# Altium footprint library WE-CMB HV.PcbLib: 10 footprints
Each footprint in its own frame and in the unit in brackets; x right, y up, seen from the top. Pads: shape width x height; smd on the part's side, far side on the other; paste and mask are expansions set on the pad; w line width, h text height; cw(c..) or ccw(c..) is an arc to the next point about the centre after c.
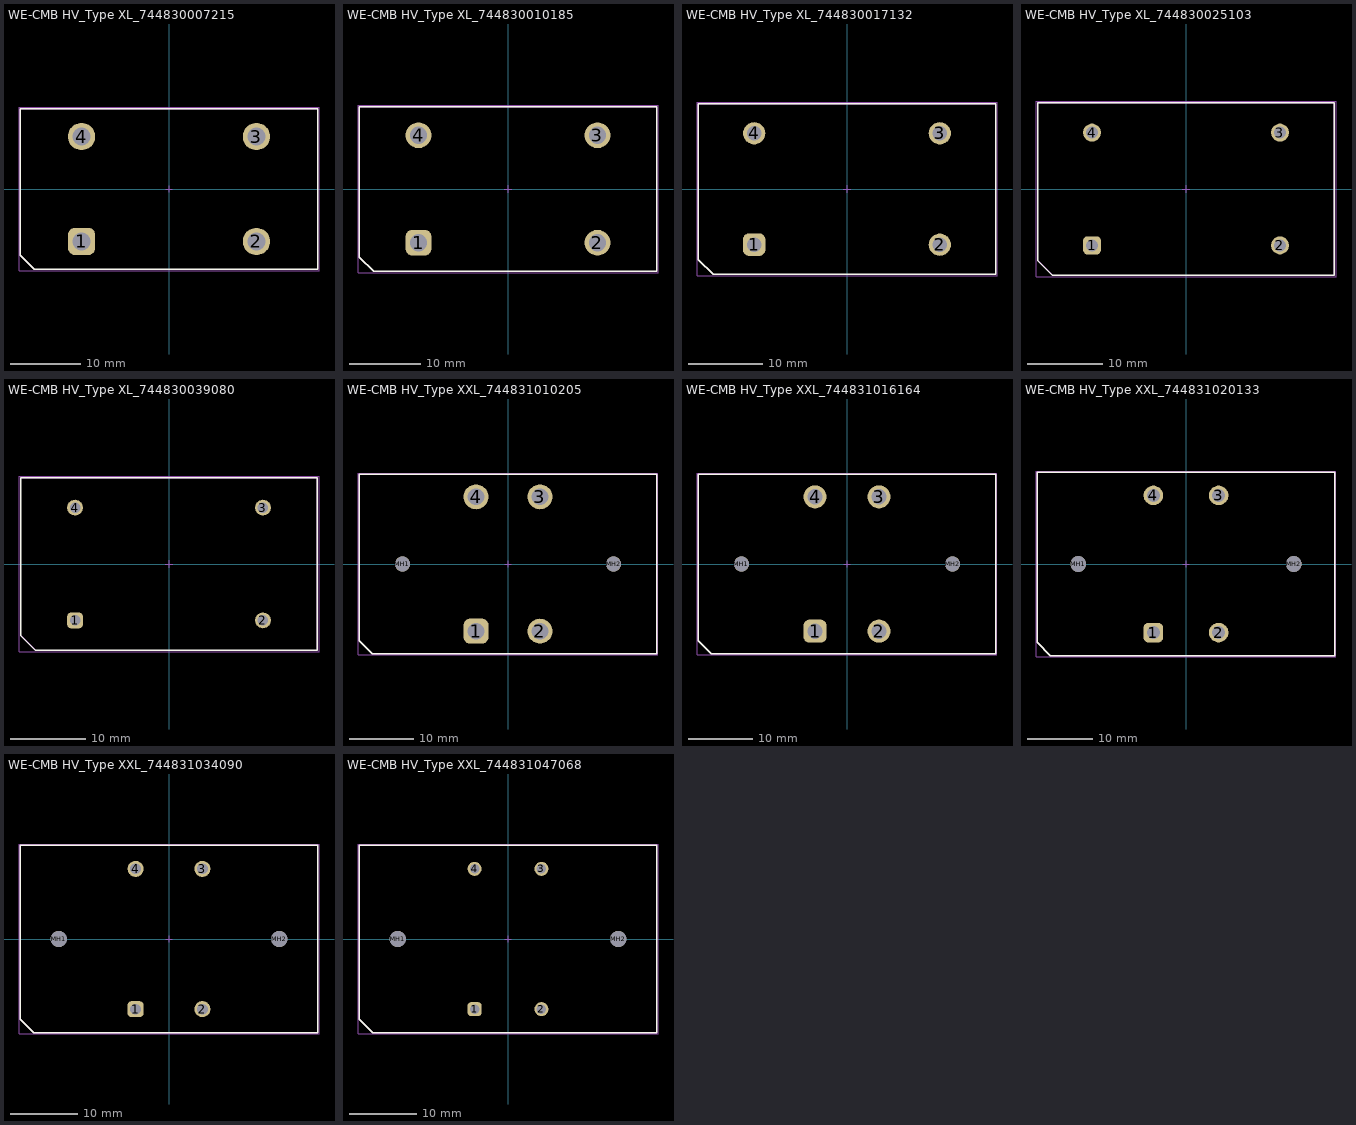
[diagram p0: the footprints below, top view; thin cyan lines are the x and y axes]

## WE-CMB HV_Type XL_744830007215 [mm] "Common Mode  Power Line Choke, 4-Leads, body 42.5x23mm"
height 39.5
pads (4):
  rrect50% 3.9x3.9 hole 2.6: 1(-12.5,-7.5)
  round 3.9 hole 2.6: 2(12.5,-7.5) 3(12.5,7.5) 4(-12.5,7.5)
Top Overlay:
  lines w0.2: -21.25,-9.5 -19.25,-11.5 21.25,-11.5 21.25,11.5 -21.25,11.5 -21.25,-9.5
Top Designator:
  text ".Designator" at -7.498,-0.5 h1.5
Top Component Outline:
  lines w0.1: -21.25,-9.5 -21.25,11.5 21.25,11.5 21.25,-11.5 -19.25,-11.5 -21.25,-9.5
Top 3D Body:
  lines w0.1: -21.25,-9.5 -21.25,11.5 21.25,11.5 21.25,-11.5 -19.25,-11.5 -21.25,-9.5
Top Courtyard:
  lines w0.05: -0.5,0 0.5,0 ; 0,-0.5 0,0.5 ; -21.45,-11.7 21.45,-11.7 21.45,11.7 -21.45,11.7 -21.45,-11.7
3D body "744830007215.stp": height 36.75, standoff -4.8, extent -19.11,-11.1 19.11,10.9

## WE-CMB HV_Type XL_744830010185 [mm] "Common Mode  Power Line Choke, 4-Leads, body 41.5x23mm"
height 39.5
pads (4):
  rrect50% 3.6x3.6 hole 2.4: 1(-12.5,-7.5)
  round 3.6 hole 2.4: 2(12.5,-7.5) 3(12.5,7.5) 4(-12.5,7.5)
Top Overlay:
  lines w0.2: -20.75,-9.5 -20.75,11.5 20.75,11.5 20.75,-11.5 -18.75,-11.5 -20.75,-9.5
Top Designator:
  text ".Designator" at -7.498,-0.5 h1.5
Top Component Outline:
  lines w0.1: -20.75,-9.5 -18.75,-11.5 20.75,-11.5 20.75,11.5 -20.75,11.5 -20.75,-9.5
Top 3D Body:
  lines w0.1: -20.75,-9.5 -18.75,-11.5 20.75,-11.5 20.75,11.5 -20.75,11.5 -20.75,-9.5
Top Courtyard:
  lines w0.05: -0.5,0 0.5,0 ; 0,-0.5 0,0.5 ; -20.95,-11.7 -20.95,11.7 20.95,11.7 20.95,-11.7 -20.95,-11.7
3D body "744830010185.stp": height 36.75, standoff -4.8, extent -19.11,-11.1 19.11,10.9

## WE-CMB HV_Type XL_744830017132 [mm] "Common Mode  Power Line Choke, 4-Leads, body 40x23mm"
height 39.5
pads (4):
  rrect50% 3x3 hole 2: 1(-12.5,-7.5)
  round 3 hole 2: 2(12.5,-7.5) 3(12.5,7.5) 4(-12.5,7.5)
Top Overlay:
  lines w0.2: -20,-9.5 -18,-11.5 20,-11.5 20,11.5 -20,11.5 -20,-9.5
Top Designator:
  text ".Designator" at -7.498,-0.5 h1.5
Top Component Outline:
  lines w0.1: -20,-9.5 -20,11.5 20,11.5 20,-11.5 -18,-11.5 -20,-9.5
Top 3D Body:
  lines w0.1: -20,-9.5 -20,11.5 20,11.5 20,-11.5 -18,-11.5 -20,-9.5
Top Courtyard:
  lines w0.05: -0.5,0 0.5,0 ; 0,-0.5 0,0.5 ; -20.2,-11.7 20.2,-11.7 20.2,11.7 -20.2,11.7 -20.2,-11.7
3D body "744830017132.stp": height 36.75, standoff -4.8, extent -19.11,-11.1 19.11,10.9

## WE-CMB HV_Type XL_744830025103 [mm] "Common Mode  Power Line Choke, 4-Leads, body 39.5x23mm"
height 39.5
pads (4):
  rrect50% 2.4x2.4 hole 1.6: 1(-12.5,-7.5)
  round 2.4 hole 1.6: 2(12.5,-7.5) 3(12.5,7.5) 4(-12.5,7.5)
Top Overlay:
  lines w0.2: -19.75,-9.5 -19.75,11.5 19.75,11.5 19.75,-11.5 -17.75,-11.5 -19.75,-9.5
Top Designator:
  text ".Designator" at -7.498,-0.5 h1.5
Top Component Outline:
  lines w0.1: -19.75,-9.5 -17.75,-11.5 19.75,-11.5 19.75,11.5 -19.75,11.5 -19.75,-9.5
Top 3D Body:
  lines w0.1: -19.75,-9.5 -17.75,-11.5 19.75,-11.5 19.75,11.5 -19.75,11.5 -19.75,-9.5
Top Courtyard:
  lines w0.05: -0.5,0 0.5,0 ; 0,-0.5 0,0.5 ; -19.95,-11.7 -19.95,11.7 19.95,11.7 19.95,-11.7 -19.95,-11.7
3D body "744830025103.stp": height 36.75, standoff -4.8, extent -19.11,-11.1 19.11,10.9

## WE-CMB HV_Type XL_744830039080 [mm] "Common Mode  Power Line Choke, 4-Leads, body 39.5x23mm"
height 39.5
pads (4):
  rrect50% 2.1x2.1 hole 1.4: 1(-12.5,-7.5)
  round 2.1 hole 1.4: 2(12.5,-7.5) 3(12.5,7.5) 4(-12.5,7.5)
Top Overlay:
  lines w0.2: -19.75,-9.5 -19.75,11.5 19.75,11.5 19.75,-11.5 -17.75,-11.5 -19.75,-9.5
Top Designator:
  text ".Designator" at -7.498,-0.5 h1.5
Top Component Outline:
  lines w0.1: -19.75,-9.5 -17.75,-11.5 19.75,-11.5 19.75,11.5 -19.75,11.5 -19.75,-9.5
Top 3D Body:
  lines w0.1: -19.75,-9.5 -17.75,-11.5 19.75,-11.5 19.75,11.5 -19.75,11.5 -19.75,-9.5
Top Courtyard:
  lines w0.05: -0.5,0 0.5,0 ; 0,-0.5 0,0.5 ; -19.95,-11.7 -19.95,11.7 19.95,11.7 19.95,-11.7 -19.95,-11.7
3D body "744830039080.stp": height 36.75, standoff -4.8, extent -19.11,-11.1 19.11,10.9

## WE-CMB HV_Type XXL_744831010205 [mm] "Common Mode  Power Line Choke, 4-Leads, body 46.5x28mm"
height 44.5
pads (6):
  rrect50% 3.9x3.9 hole 2.6: 1(-5,-10.5)
  round 3.9 hole 2.6: 2(5,-10.5) 3(5,10.5) 4(-5,10.5)
  round 2.4 hole 2.4 unplated: MH1(-16.5,0) MH2(16.5,0)
Top Overlay:
  lines w0.2: -23.25,-12 -23.25,14 23.25,14 23.25,-14 -21.25,-14 -23.25,-12
Top Designator:
  text ".Designator" at -7.498,-0.5 h1.5
Top Component Outline:
  lines w0.1: -23.25,-12 -21.25,-14 23.25,-14 23.25,14 -23.25,14 -23.25,-12
Top 3D Body:
  lines w0.1: -23.25,-12 -21.25,-14 23.25,-14 23.25,14 -23.25,14 -23.25,-12
Top Courtyard:
  lines w0.05: -0.5,0 0.5,0 ; 0,-0.5 0,0.5 ; -23.45,-14.2 -23.45,14.2 23.45,14.2 23.45,-14.2 -23.45,-14.2
3D body "744831010205.stp": height 41.3, standoff -4.9, extent -21.655,-13.25 21.657,13.25

## WE-CMB HV_Type XXL_744831016164 [mm] "Common Mode  Power Line Choke, 4-Leads, body 46.5x28mm"
height 44.5
pads (6):
  rrect50% 3.6x3.6 hole 2.4: 1(-5,-10.5)
  round 3.6 hole 2.4: 2(5,-10.5) 3(5,10.5) 4(-5,10.5)
  round 2.4 hole 2.4 unplated: MH1(-16.5,0) MH2(16.5,0)
Top Overlay:
  lines w0.2: -23.25,-12 -23.25,14 23.25,14 23.25,-14 -21.25,-14 -23.25,-12
Top Designator:
  text ".Designator" at -7.498,-0.5 h1.5
Top Component Outline:
  lines w0.1: -23.25,-12 -21.25,-14 23.25,-14 23.25,14 -23.25,14 -23.25,-12
Top 3D Body:
  lines w0.1: -23.25,-12 -21.25,-14 23.25,-14 23.25,14 -23.25,14 -23.25,-12
Top Courtyard:
  lines w0.05: -0.5,0 0.5,0 ; 0,-0.5 0,0.5 ; -23.45,-14.2 -23.45,14.2 23.45,14.2 23.45,-14.2 -23.45,-14.2
3D body "744831016164.stp": height 41.3, standoff -4.9, extent -21.655,-13.25 21.657,13.25

## WE-CMB HV_Type XXL_744831020133 [mm] "Common Mode  Power Line Choke, 4-Leads, body 45.5x28mm"
height 44.5
pads (6):
  rrect50% 3x3 hole 2: 1(-5,-10.5)
  round 3 hole 2: 2(5,-10.5) 3(5,10.5) 4(-5,10.5)
  round 2.4 hole 2.4 unplated: MH1(-16.5,0) MH2(16.5,0)
Top Overlay:
  lines w0.2: -22.75,-12 -20.75,-14 22.75,-14 22.75,14 -22.75,14 -22.75,-12
Top Designator:
  text ".Designator" at -7.498,-0.5 h1.5
Top Component Outline:
  lines w0.1: -22.75,-12 -22.75,14 22.75,14 22.75,-14 -20.75,-14 -22.75,-12
Top 3D Body:
  lines w0.1: -22.75,-12 -22.75,14 22.75,14 22.75,-14 -20.75,-14 -22.75,-12
Top Courtyard:
  lines w0.05: -0.5,0 0.5,0 ; 0,-0.5 0,0.5 ; -22.95,-14.2 22.95,-14.2 22.95,14.2 -22.95,14.2 -22.95,-14.2
3D body "744831020133.stp": height 41.3, standoff -4.9, extent -21.655,-13.25 21.657,13.25

## WE-CMB HV_Type XXL_744831034090 [mm] "Common Mode  Power Line Choke, 4-Leads, body 44.5x28mm"
height 44.5
pads (6):
  rrect50% 2.4x2.4 hole 1.6: 1(-5,-10.5)
  round 2.4 hole 1.6: 2(5,-10.5) 3(5,10.5) 4(-5,10.5)
  round 2.4 hole 2.4 unplated: MH1(-16.5,0) MH2(16.5,0)
Top Overlay:
  lines w0.2: -22.25,-12 -22.25,14 22.25,14 22.25,-14 -20.25,-14 -22.25,-12
Top Designator:
  text ".Designator" at -7.498,-0.5 h1.5
Top Component Outline:
  lines w0.1: -22.25,-12 -20.25,-14 22.25,-14 22.25,14 -22.25,14 -22.25,-12
Top 3D Body:
  lines w0.1: -22.25,-12 -20.25,-14 22.25,-14 22.25,14 -22.25,14 -22.25,-12
Top Courtyard:
  lines w0.05: -0.5,0 0.5,0 ; 0,-0.5 0,0.5 ; -22.45,-14.2 -22.45,14.2 22.45,14.2 22.45,-14.2 -22.45,-14.2
3D body "744831034090.stp": height 41.3, standoff -4.9, extent -21.655,-13.25 21.657,13.25

## WE-CMB HV_Type XXL_744831047068 [mm] "Common Mode  Power Line Choke, 4-Leads, body 44.5x28mm"
height 44.5
pads (6):
  rrect50% 2.1x2.1 hole 1.4: 1(-5,-10.5)
  round 2.1 hole 1.4: 2(5,-10.5) 3(5,10.5) 4(-5,10.5)
  round 2.4 hole 2.4 unplated: MH1(-16.5,0) MH2(16.5,0)
Top Overlay:
  lines w0.2: -22.25,-12 -22.25,14 22.25,14 22.25,-14 -20.25,-14 -22.25,-12
Top Designator:
  text ".Designator" at -7.498,-0.5 h1.5
Top Component Outline:
  lines w0.1: -22.25,-12 -20.25,-14 22.25,-14 22.25,14 -22.25,14 -22.25,-12
Top 3D Body:
  lines w0.1: -22.25,-12 -20.25,-14 22.25,-14 22.25,14 -22.25,14 -22.25,-12
Top Courtyard:
  lines w0.05: -0.5,0 0.5,0 ; 0,-0.5 0,0.5 ; -22.45,-14.2 -22.45,14.2 22.45,14.2 22.45,-14.2 -22.45,-14.2
3D body "744831047068.stp": height 41.3, standoff -4.9, extent -21.655,-13.25 21.657,13.25